# Altium footprint library TO39-4.PcbLib: 1 footprints
Each footprint in its own frame and in the unit in brackets; x right, y up, seen from the top. Pads: shape width x height; smd on the part's side, far side on the other; paste and mask are expansions set on the pad; w line width, h text height; cw(c..) or ccw(c..) is an arc to the next point about the centre after c.
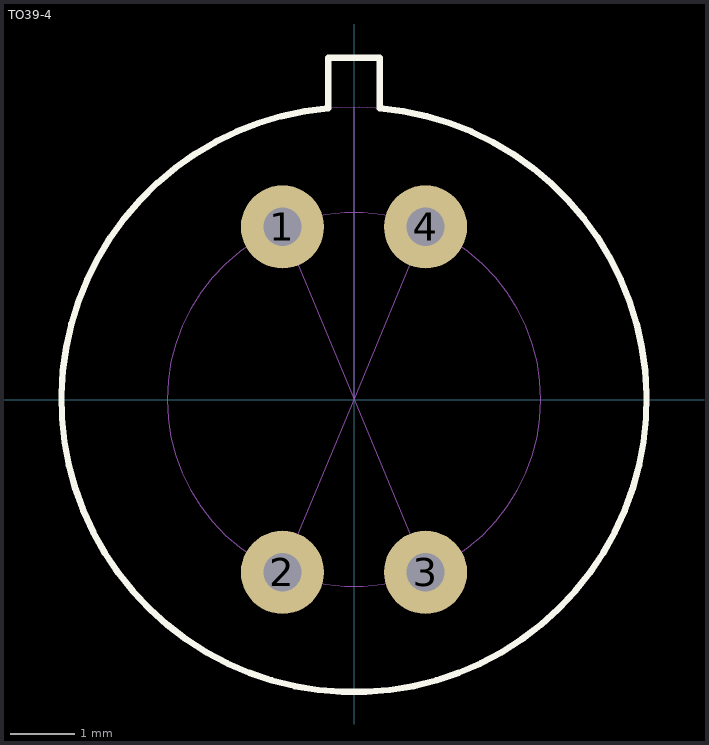
[diagram p0: the footprint, top view; thin cyan lines are the x and y axes]

## TO39-4 [mm]
height 11.25
pads (4):
  round 1.3 hole 0.6: 1(-1.117,2.698) 2(-1.117,-2.698) 3(1.117,-2.698) 4(1.117,2.698)
Top Overlay:
  lines w0.1: -0.4,5.34 0.401,5.34 ; -0.4,5.34 -0.4,5.34 ; -0.4,5.34 -0.4,4.552 ccw(c0,0) 0.401,4.552 0.401,5.34 ; 0.401,5.34 0.401,5.34
Mechanical 1:
  circle w0.01: c0,0 r2.92
  circle w0.01: c0,0 r4.57
  lines w0.01: -1.117,-2.698 0,0 ; -1.117,2.698 0,0 ; -0.4,4.55 -0.4,5.37 0.4,5.37 0.4,4.55 ; 0,4.57 0,0 ; 1.117,-2.698 0,0 ; 1.117,2.698 0,0
3D body "MLX90640.step": height 11.43, standoff -5.82, extent -4.65,-4.64 4.65,5.39